# Altium schematic symbol library JLC_PCB.SchLib: 359 symbols (part 3 of 3)
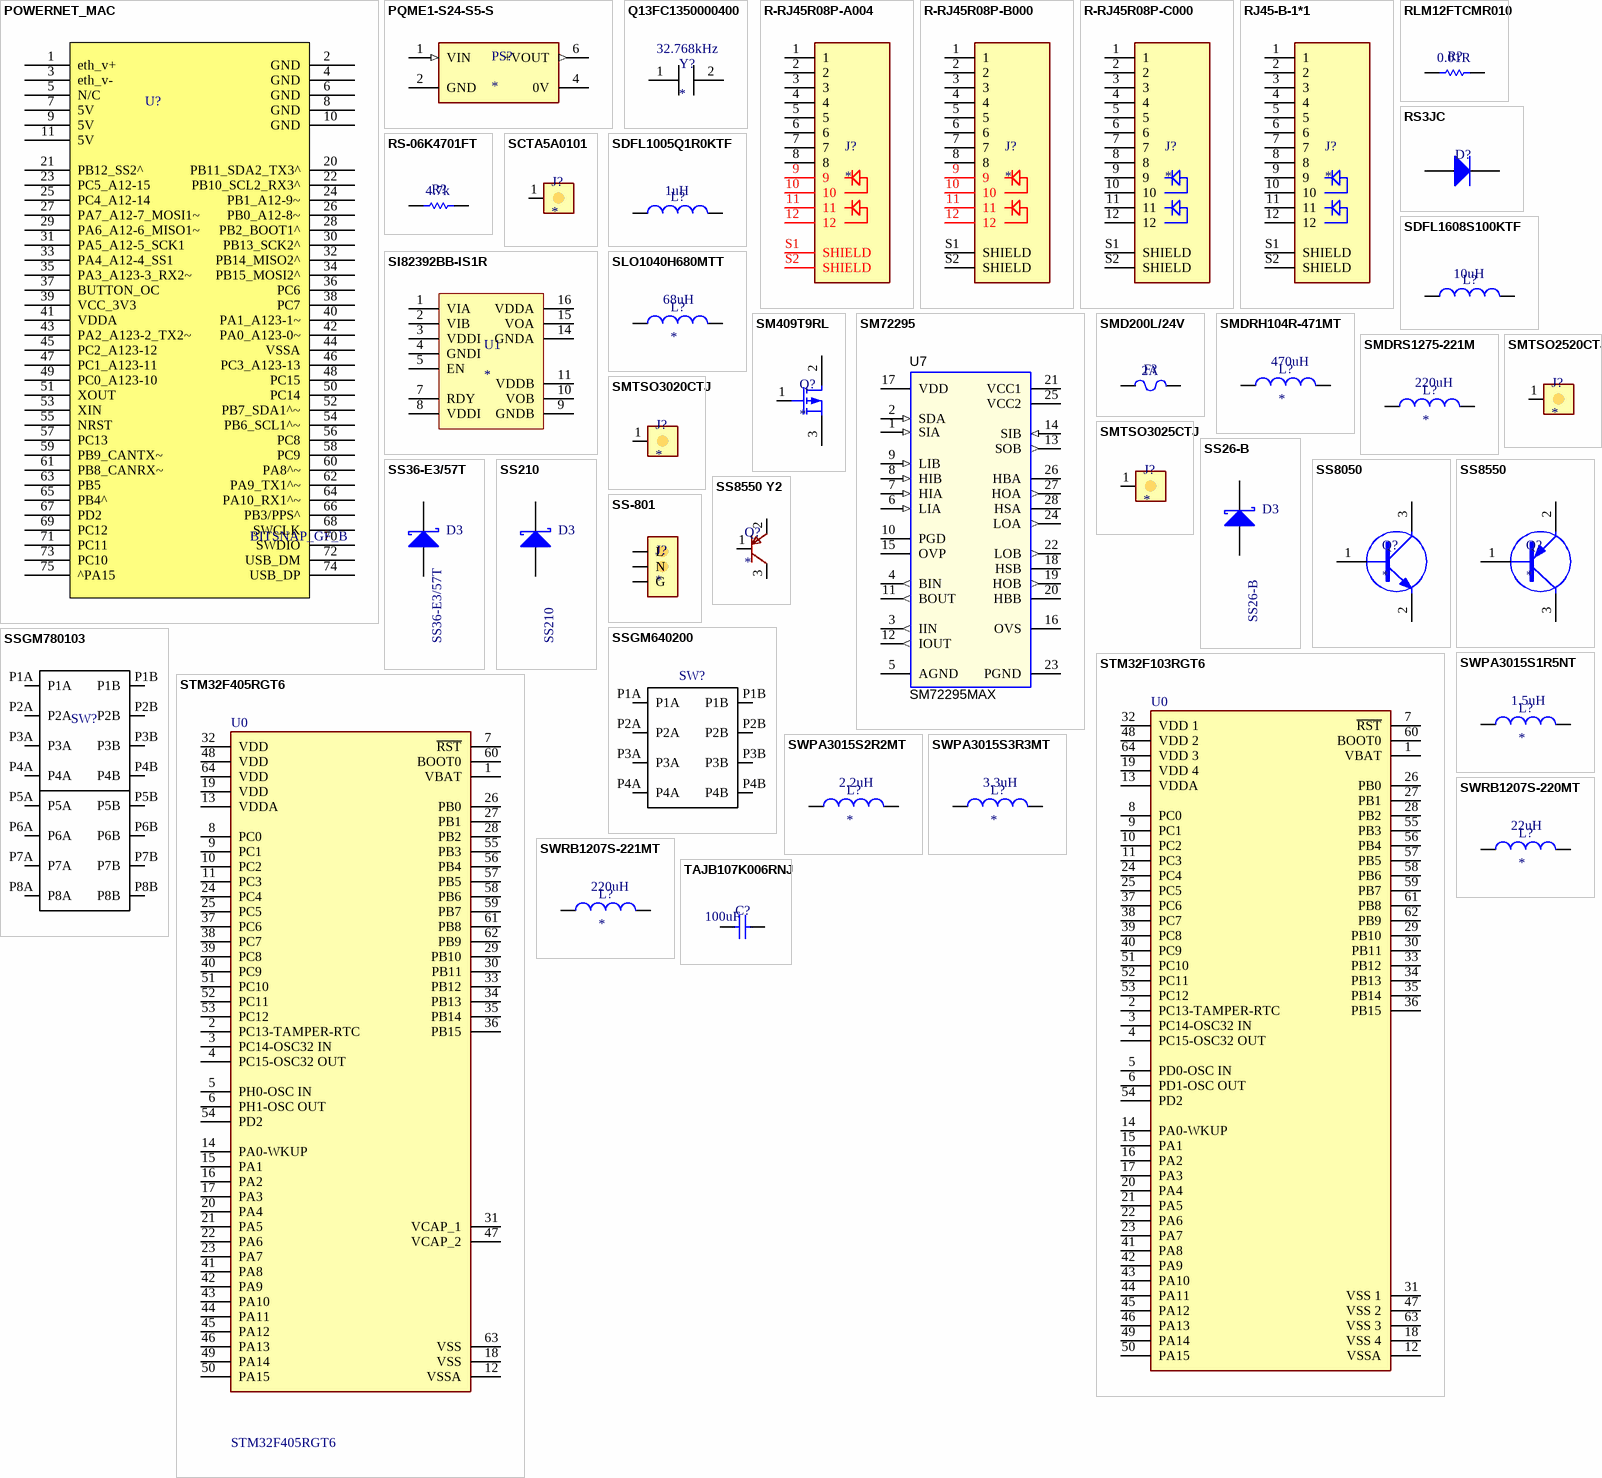
[diagram p11: symbols POWERNET_MAC to TAJB107K006RNJ]

## SWPA3015S1R5NT
designator L?  value 1.5uH
L - INDUCTOR - 1.5uH - 1.7A - 3mm; Isat: 1.7A; LCSC Part #: C56594; JLC Availability: Extended
footprint swpa301 (High Current Inductors)
pins: 1, 2

## SWPA3015S2R2MT
designator L?  value 2.2uH
L - INDUCTOR - 2.2uH - 2A - 3mm; Isat: 2A; LCSC Part #: C43389; JLC Availability: Extended
footprint swpa301 (High Current Inductors)
pins: 1, 2

## SWPA3015S3R3MT
designator L?  value 3.3uH
L - INDUCTOR - 3.3uH - 1.36A - 3mm; Isat: 1.36A; LCSC Part #: C48020; JLC Availability: Extended
footprint swpa301 (High Current Inductors)
pins: 1, 2

## SWRB1207S-220MT
designator L?  value 22uH
L - INDUCTOR - 22uH - 3.6A - 12.5mm; Isat: 3.6A; LCSC Part #: C169374; JLC Availability: Extended
footprint SRR1260 (High Current Inductors)
pins: 1, 2

## SWRB1207S-221MT
designator L?  value 220uH
L - INDUCTOR - 220uH - 1.6A - 12.5mm; Isat: 1.6A; LCSC Part #: C169380; JLC Availability: Extended
footprint SRR1260 (High Current Inductors)
pins: 1, 2

## TAJB107K006RNJ
designator C?  value 100uF  (hidden comment: *)
C - CAPACITOR - MLCC - 100uF - 6.3V - 0402; WVDC: 6.3; LCSC Part #: C16133; JLC Availability: Basic
footprint C_1210 (Chip Capacitor; Body 3.2 x 2.5 mm (LxW typ))
pins: 1, 2

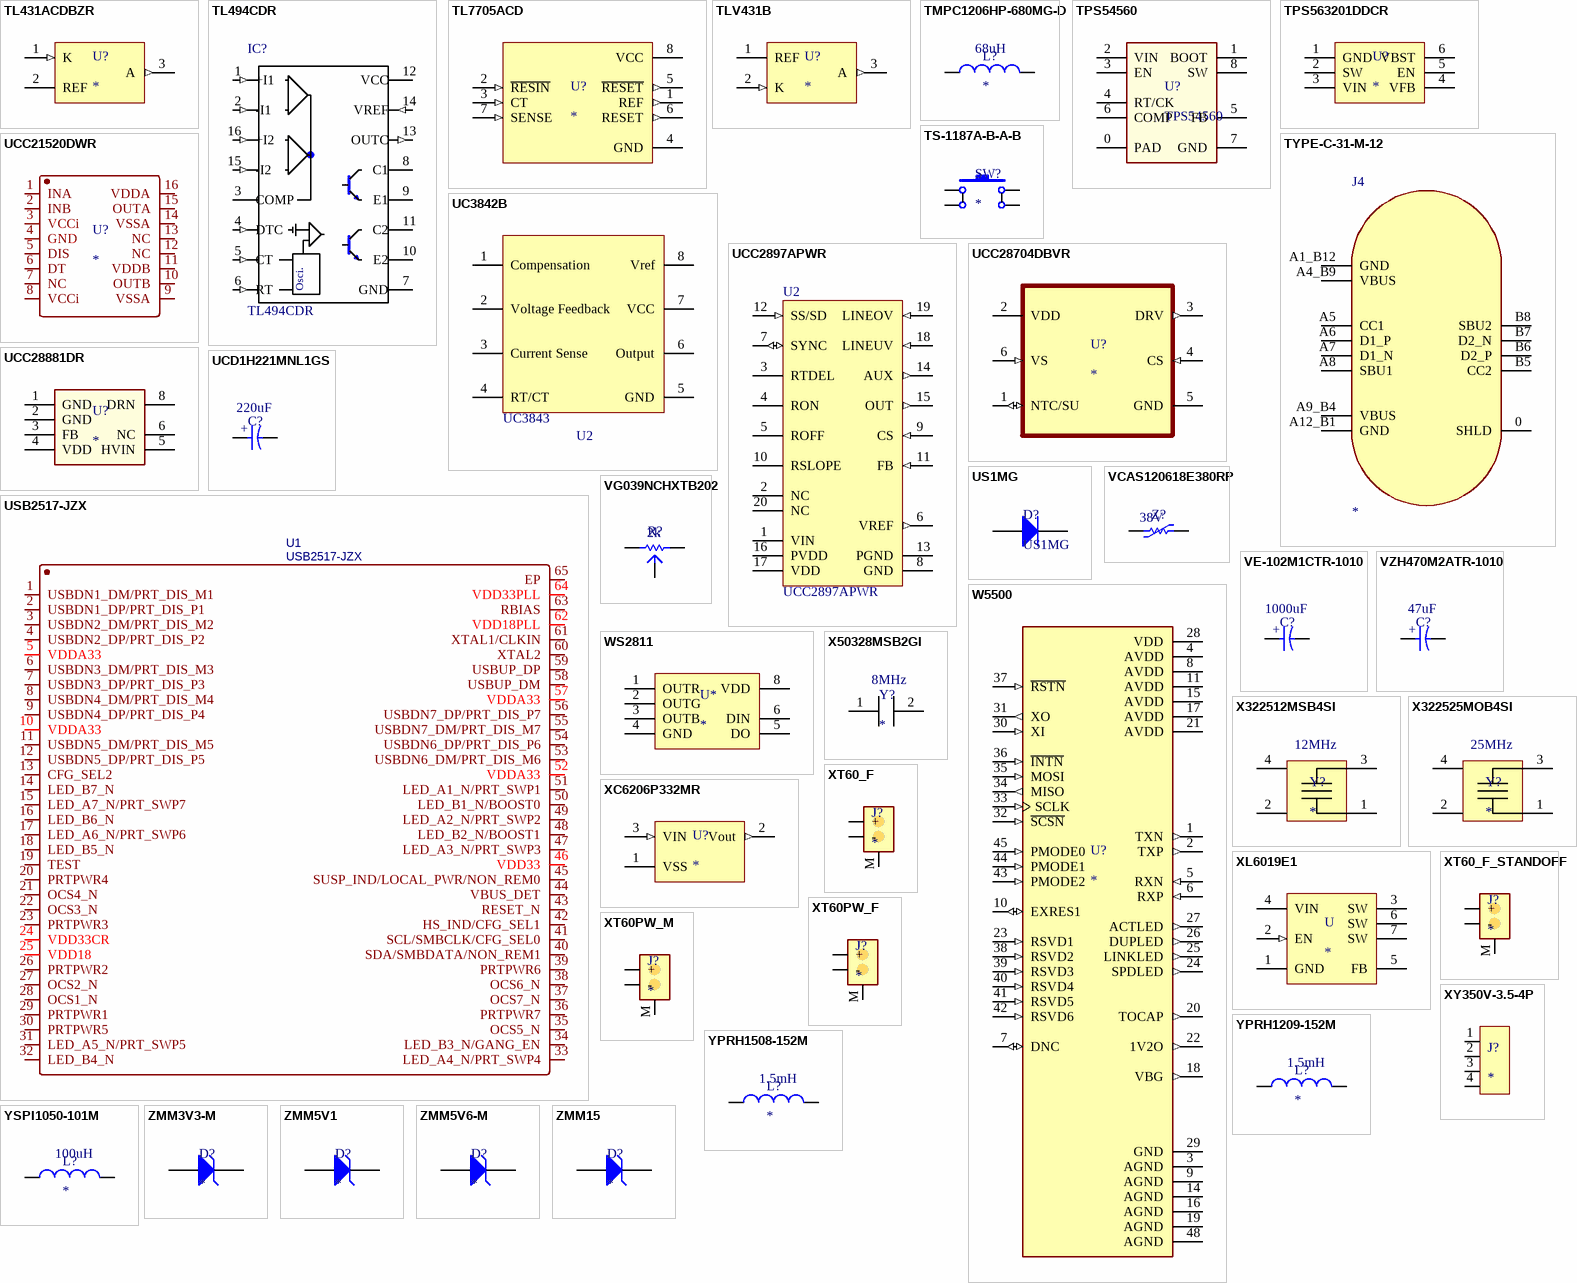
[diagram p9: symbols TL431ACDBZR to ZMM15]

## TL431ACDBZR
designator U?
U - IC - ADJUSTABLE SHUNT REGULATOR; VOut: ADJ; LCSC Part #: C350683; JLC Availability: Extended
footprint TO-236AB (SOT-23-3 Leads; Body 3.1 x 3 mm, inc. leads (LxW max))
pins: 1 K (in), 2 REF, 3 A (out)

## TL494CDR
designator IC?
U - IC - Buck, Push-Pull Regulator Positive Output Step-Down, Step-Up/Step-Down - DC-DC Controller IC 16-SOIC; SnapEDA_Link: https://www.snapeda.com/parts/TL494/Onsemi/view-part/?ref=snap; Availability: In Stock; MP: TL494CDR; Price: None; Purchase-URL: https://pricing.snapeda.com/search/part/TL494/?ref=eda; JLC Availability: Extended; Check_prices: https://www.snapeda.com/parts/TL494/Onsemi/view-part/?ref=eda; LCSC Part #: C19882; Value: *
footprint SOIC-16-P1.27-W3.5
pins: 1 +I1 (in), 2 -I1 (in), 3 COMP, 4 DTC (in), 5 CT (in), 6 RT (in), 7 GND (power), 8 C1, 9 E1, 10 E2, 11 C2, 12 VCC (power), 13 OUTC (out), 14 VREF (in), 15 -I2 (in), 16 +I2 (in)
text: Osci.

## TL7705ACD
designator U?
U - IC - 5-V single-supply voltage supervisor with programmable delay time 8-PDIP 0 to 70; MP: TL7705ACP; MF: Texas Instruments; Availability: Extended; SnapEDA_Link: https://www.snapeda.com/parts/TL7705ACP/Texas%20Instruments/view-part/130871/?ref=snap; LCSC Part #: C350569; Value: *; Purchase-URL: https://pricing.snapeda.com/search/part/TL7705ACP/?ref=eda; Package: SOIC-8; Price: None
footprint SOIC-8-P1.27-W3.5
pins: 1 REF (out), 2 ~{RESIN} (in), 3 CT (in), 4 GND (power), 5 ~{RESET} (out), 6 RESET (out), 7 SENSE (in), 8 VCC (power)

## TLV431B
designator U?
U - IC - ADJUSTABLE SHUNT REGULATOR; VOut: ADJ; LCSC Part #: C189220; JLC Availability: Extended
footprint TO-236AB (SOT-23-3 Leads; Body 3.1 x 3 mm, inc. leads (LxW max))
pins: 1 REF, 2 K (in), 3 A (out)

## TMPC1206HP-680MG-D
designator L?  value 68uH
L - INDUCTOR - 68uH - 5A - 12.5mm; Isat: 5A; LCSC Part #: C357266; JLC Availability: Extended
footprint TMPC1206HP (High Current Inductors)
pins: 1, 2

## TPS54560
designator U?
U - IC - BUCK CONVERTER, ADJUSTABLE, 65V; ComponentLink1Description: Manufacturer URL; ComponentLink1URL: http://www.st.com/web/en/home.html; ComponentLink2Description: Datasheet; ComponentLink2URL: http://www.st.com/st-web-ui/static/active/en/resource/technical/document/datasheet/CD00161566.pdf; ComponentLink3Description: Package Specification; ComponentLink3URL: http://www.st.com/st-web-ui/static/active/en/resource/technical/document/datasheet/DM00058181.pdf; JLC Availability: Extended; LCSC Part #: C31966
footprint SOIC-8-P1.27-W3.5-EP
pins: 0 PAD, 1 BOOT, 2 VIN, 3 EN, 4 RT/CK, 5 FB, 6 COMP, 7 GND, 8 SW

## TPS563201DDCR
designator U?
U - IC - ADJ Power Regulator; VOut: ADJ; LCSC Part #: C116592; JLC Availability: Extended
footprint SOT-23-6 (SOT-23-6 Leads; Body 3.1 x 3 mm, inc. leads (LxW max))
pins: 1 GND, 2 SW (power), 3 VIN (power), 4 VFB (power), 5 EN, 6 VBST

## TS-1187A-B-A-B
designator SW?
SW - SWITCH - SPST - NO - Top Actuated Surface Mount; JLC Availability: Basic; LCSC Part #: C318884
footprint TS-1187A-C-C-B (Tactile Switch SPST-NO Top Actuated Surface Mount)
pins: 1, 1B, 2, 2B

## TYPE-C-31-M-12
designator J4
J - JACK - USB - Type C - Recepticle - SMT - 90°; JLC Availability: Extended; LCSC Part #: C2156570
footprint TYPE-C-31-M-12 (USB-C (USB TYPE-C) USB 2.0 Receptacle Connector 24 (16+8 Dummy) Position Surface Mount, Right Angle)
pins: 0 SHLD, A1_B12 GND, A4_B9 VBUS (power), A5 CC1, A6 D1_P, A7 D1_N, A8 SBU1, A9_B4 VBUS (power), A12_B1 GND, B5 CC2, B6 D2_P, B7 D2_N, B8 SBU2

## UC3842B
designator U2, comment UC3843
IC - Current Mode REGULATOR; Availability: Extended; LCSC Part #: C347459
footprint SOIC-8-P1.27-W3.5
pins: 1 Compensation, 2 Voltage Feedback, 3 Current Sense, 4 RT/CT, 5 GND, 6 Output, 7 VCC, 8 Vref

## UCC2897APWR
designator U2
U - IC - Advanced Active Clamp PWM Controller with Current-Mode Control, -40 to +125 degC, 20-pin TSSOP (PW), Green (RoHS & no Sb/Br); Manufacturer: Texas Instruments; Rating: Catalog; Regulated Outputs(#): 1; Frequency(Max)(kHz): 1000; PackageVersion: revG, Feb-2011; Control Method: Current; SubFamily: PWM Controller; Code_JEDEC: MO-153; Eco-Plan: Green (RoHS & no Sb/Br); Mounting Technology: Surface Mount; PackageDescription: 20-Pin Plastic Thin Small Outline Package 6.5 x 4.4 mm Body ,0.65 mm Pitch; PartNumber: UCC2897APWR; PackageReference: PW0020A; DatasheetVersion: SLUS829D; LCSC Part #: C54444
footprint TSSOP-20-P0.65MM-W4.4MM (Shrink Small Outline; 20 Leads; Body Width 4.4 mm; Pitch 0.65 mm)
pins: 1 VIN (power) "This pin is connected to the input power rail directly. Inside the device, a high-voltage start-up device is utilized to provide the start-up current for the controller until a bootstrap type bias rail becomes available.", 2 NC "No connection.", 3 RTDEL "A resistor from this pin to GND programs the turn-on delay of the two gate drive outputs to accommodate the resonant transitions of the active clamp power converter.", 4 RON "A resistor connected from this pin to GND programs an internal current source that charges the internal timing capacitor.", 5 ROFF "A resistor connected from this pin to GND programs an internal current source that discharges the internal timing capacitor.", 6 VREF (out) "This is the 5-V reference voltage that can be utilized for an external load of up to 5 mA. Since this reference provides the supply rail for internal logic, it should be bypassed to AGND as close as possible to the device. (See Datasheet)", 7 SYNC (io) "The SYNC pin serves as a bidirectional synchronization input for the internal oscillator. The synchronization function is implemented such that the user programmable maximum duty cycle (set by RON and ROFF) remains accurate (See Datasheet)", 8 GND (power) "This pin serves as the fundamental analog ground for the PWM control circuitry. This pin should be connected to PGND directly at the device.", 9 CS (in) "This pin is used to sense the peak current utilized for current mode control and for current limiting functions. The peak signal which can be applied to this pin before pulse-by-pulse current limiting activates is (See Datasheet)", 10 RSLOPE "A resistor connected from this pin to GND programs an internal current source that sets the slope compensation ramp for the current mode control circuitry.", 11 FB (in) "This pin is used to bring the error signal from an external optocoupler or error amplifier into the PWM control circuitry. Often, there is a resistor tied from FB to VREF, and an optocoupler is used to pull the control pin (See Datasheet)", 12 SS/SD (in) "A capacitor from SS/SD to ground is charged by an internal current source of IRON to program the soft-start interval for the controller. During a fault condition this capacitor is discharged by a current source equal to IRON.", 13 PGND (power) "The PGND should serve as the current return for the high-current output drivers OUT and AUX. Ideally, the current path from the outputs to the switching devices, and back would be as short as possible, and enclose a minimal (See Datasheet)", 14 AUX (out) "This output drives the auxiliary clamp MOSFET which is turned on when the main PWM switching device is turned off. The AUX pin can directly drive the auxiliary switch with 2-A source turn-on current and 2-A sink turn-off (See Datasheet)", 15 OUT (out) "This output pin drives the main PWM switching element MOSFET in an active clamp controller. It can directly drive an N-channel device with 2-A source turn-on current and 2-A sink turn-off current. Recommend connecting a 10-k (See Datasheet)", 16 PVDD (power) "This is the supply pin for the power devices. It is separated internally from the VDD pin.", 17 VDD (power) "This is the power supply for the device. There should be a 1.0-uF capacitor directly from VDD to PGND. The capacitor value should be minimum 10 times bigger than that on VREF. PGND and GND should be connected externally and (See Datasheet)", 18 LINEUV (in) "This pin provides a means to accurately enable/disable the power converter stage by monitoring the bulk input voltage or another parameter. When the circuit initially starts (or restarts from a disabled condition), a rising (See Datasheet)", 19 LINEOV (in) "This is an input pin of voltage comparator with programmable hysteresis and 1.27-V threshold, providing LINE overvoltage or other functions.", 20 NC "No connection."

## UCC21520DWR
designator U?
U - IC - GATE DRIVER, Half Bridge, Isolated; LCSC Part #: C601651; JLC Availability: Extended
footprint SOIC-16-P1.27-W7.5
pins: 1 INA, 2 INB, 3 VCCi, 4 GND, 5 DIS, 6 DT, 7 NC, 8 VCCi, 9 VSSA, 10 OUTB, 11 VDDB, 12 NC, 13 NC, 14 VSSA, 15 OUTA, 16 VDDA

## UCC28704DBVR
designator U?
U - IC - PSR FLYBACK CTRL; MP: UCC28704DBVR-1; LCSC Part #: C2864380; Package: None; Price: None; Value: *; Availability: Unavailable
footprint SOT-23-6 (SOT-23-6 Leads; Body 3.1 x 3 mm, inc. leads (LxW max))
pins: 1 NTC/SU (io), 2 VDD (power), 3 DRV (out), 4 CS (in), 5 GND (power), 6 VS (in)

## UCC28881DR
designator U?
U - IC - BUCK CONVERTER, ADJUSTABLE, 700V; ComponentLink1Description: Manufacturer URL; ComponentLink1URL: http://www.st.com/web/en/home.html; ComponentLink2Description: Datasheet; ComponentLink2URL: http://www.st.com/st-web-ui/static/active/en/resource/technical/document/datasheet/CD00161566.pdf; ComponentLink3Description: Package Specification; ComponentLink3URL: http://www.st.com/st-web-ui/static/active/en/resource/technical/document/datasheet/DM00058181.pdf; JLC Availability: Extended; LCSC Part #: C544970
footprint SOIC-7-P1.27-W3.5
pins: 1 GND, 2 GND, 3 FB, 4 VDD, 5 HVIN, 6 NC, 8 DRN

## UCD1H221MNL1GS
designator C?  value 220uF  (hidden comment: *)
C - CAPACITOR - ELECTROLYTIC - 220uF - 50V; WVDC: 50; ESR: 40mOhm; JLC Availability: Extended; LCSC Part #: C116211
footprint C_CAN_1010 (SMD-ECAP-10x10)
pins: 1, 2
text: +

## US1MG
designator D?
D - DIODE - FAST TRR - 1KV - 1A; LCSC Part #: C412437; JLC Availability: Basic
footprint DO-214AC (SMA Diode)
pins: 1 K, 2 A

## USB2517-JZX
designator U1
U - IC - USB 2.0 Hub, 7 Port, 6TT; Manufacturer: MICROCHIP(美国微芯); Contributor: LCSC; Supplier: LCSC; LCSC Part #: C1521556; Manufacturer Part: USB2517-JZX; JLCPCB Part Class: Extended Part; spicePre: U; spiceSymbolName: USB2517-JZX
footprint QFN-64_L9.0-W9.0-P0.50-BL-EP4.8
pins: 1 USBDN1_DM/PRT_DIS_M1, 2 USBDN1_DP/PRT_DIS_P1, 3 USBDN2_DM/PRT_DIS_M2, 4 USBDN2_DP/PRT_DIS_P2, 5 VDDA33, 6 USBDN3_DM/PRT_DIS_M3, 7 USBDN3_DP/PRT_DIS_P3, 8 USBDN4_DM/PRT_DIS_M4, 9 USBDN4_DP/PRT_DIS_P4, 10 VDDA33, 11 USBDN5_DM/PRT_DIS_M5, 12 USBDN5_DP/PRT_DIS_P5, 13 CFG_SEL2, 14 LED_B7_N, 15 LED_A7_N/PRT_SWP7, 16 LED_B6_N, 17 LED_A6_N/PRT_SWP6, 18 LED_B5_N, 19 TEST, 20 PRTPWR4, 21 OCS4_N, 22 OCS3_N, 23 PRTPWR3, 24 VDD33CR, 25 VDD18, 26 PRTPWR2, 27 OCS2_N, 28 OCS1_N, 29 PRTPWR1, 30 PRTPWR5, 31 LED_A5_N/PRT_SWP5, 32 LED_B4_N, 33 LED_A4_N/PRT_SWP4, 34 LED_B3_N/GANG_EN, 35 OCS5_N, 36 PRTPWR7, 37 OCS7_N, 38 OCS6_N, 39 PRTPWR6, 40 SDA/SMBDATA/NON_REM1, 41 SCL/SMBCLK/CFG_SEL0, 42 HS_IND/CFG_SEL1, 43 RESET_N, 44 VBUS_DET, 45 SUSP_IND/LOCAL_PWR/NON_REM0, 46 VDD33, 47 LED_A3_N/PRT_SWP3, 48 LED_B2_N/BOOST1, 49 LED_A2_N/PRT_SWP2, 50 LED_B1_N/BOOST0, 51 LED_A1_N/PRT_SWP1, 52 VDDA33, 53 USBDN6_DM/PRT_DIS_M6, 54 USBDN6_DP/PRT_DIS_P6, 55 USBDN7_DM/PRT_DIS_M7, 56 USBDN7_DP/PRT_DIS_P7, 57 VDDA33, 58 USBUP_DM, 59 USBUP_DP, 60 XTAL2, 61 XTAL1/CLKIN, 62 VDD18PLL, 63 RBIAS, 64 VDD33PLL, 65 EP

## VCAS120618E380RP
designator Z?  WVDC: 38V  (hidden comment: *)
Z - VARISTOR - 38V - 0.5J - 200A - 1206; JLC Availability: Extended; LCSC Part #: C382117; Value: 0.5J
footprint C_1206 (Chip Capacitor; Body 3.2 x 1.6 mm (LxW typ))
pins: 1, 2

## VE-102M1CTR-1010
designator C?  value 1000uF  (hidden comment: *)
C - CAPACITOR - ELECTROLYTIC - 1000uF - 16V; WVDC: 16; ESR: 40mOhm; JLC Availability: Extended; LCSC Part #: C249474
footprint C_CAN_1010 (SMD-ECAP-10x10)
pins: 1, 2
text: +

## VG039NCHXTB202
designator R?  value 2k  (hidden comment: *)
R - POTENTIOMETER - SMD - 2k - 1% - 0805; LCSC Part #: C128549; JLC Availability: Extended
footprint R_3MM_POT (Body 3.2 x 1.6 mm (LxW typ))
pins: 1, 2, 3

## VZH470M2ATR-1010
designator C?  value 47uF  (hidden comment: *)
C - CAPACITOR - ELECTROLYTIC - 47uF - 100V; WVDC: 100; ESR: 40mOhm; JLC Availability: Extended; LCSC Part #: C164068
footprint C_CAN_1010 (SMD-ECAP-10x10)
pins: 1, 2
text: +

## W5500
designator U?
U - IC - Ethernet Controller 10/100 Base-T/TX PHY SPI Interface 48-LQFP (7x7); MF: WIZnet; MP: W5500; Value: *; Package: None; LCSC Part #: C32843; Price: None; Availability: Extended; SnapEDA_Link: https://www.snapeda.com/parts/W5500/WIZnet/view-part/?ref=snap; Purchase-URL: https://pricing.snapeda.com/search/part/W5500/?ref=eda
footprint QFP-48-P0.5MM (QFP; 48 Leads; Body 7 x 7 mm; Pitch 0.5 mm)
pins: 1 TXN (out), 2 TXP (out), 3 AGND (power), 4 AVDD (power), 5 RXN (in), 6 RXP (in), 7 DNC (io), 8 AVDD (power), 9 AGND (power), 10 EXRES1 (io), 11 AVDD (power), 14 AGND (power), 15 AVDD (power), 16 AGND (power), 17 AVDD (power), 18 VBG (out), 19 AGND (power), 20 TOCAP (out), 21 AVDD (power), 22 1V2O (out), 23 RSVD1 (in), 24 SPDLED (out), 25 LINKLED (out), 26 DUPLED (out), 27 ACTLED (out), 28 VDD (power), 29 GND, 30 XI (in), 31 XO (out), 32 ~{SCSN} (in), 33 SCLK (in), 34 MISO (out), 35 MOSI (in), 36 ~{INTN} (in), 37 ~{RSTN} (in), 38 RSVD2 (in), 39 RSVD3 (in), 40 RSVD4 (in), 41 RSVD5 (in), 42 RSVD6 (in), 43 PMODE2 (in), 44 PMODE1 (in), 45 PMODE0 (in), 48 AGND (power)

## WS2811
designator U*
U - IC - Addressable PWM Driver; JLC Availability: Extended; LCSC Part Number: C114581
footprint SOIC-8-P1.27-W3.5
pins: 1 OUTR, 2 OUTG, 3 OUTB, 4 GND, 5 DO, 6 DIN, 8 VDD

## X50328MSB2GI
designator Y?  value 8MHz
Y - RESONATOR - 8MHZ ±10PPM - SMD-5032; LCSC Part #: C115962; Availability: Basic
footprint YSX530GA
pins: 1, 2

## X322512MSB4SI
designator Y?  value 12MHz
Y - RESONATOR - 12MHZ ±10PPM; LCSC Part #: C9002; JLC Availability: Basic
footprint X322512MSB4SI (Footprint not found)
pins: 1, 2 GND, 3, 4 GND

## X322525MOB4SI
designator Y?  value 25MHz
Y - RESONATOR - 25MHZ ±10PPM; LCSC Part #: C9006; JLC Availability: Basic
footprint X322512MSB4SI (Footprint not found)
pins: 1, 2 GND, 3, 4 GND

## XC6206P332MR
designator U?
U - IC - LDO 3.3V 200mA; VOut: 3.3; LCSC Part #: C5446; JLC Availability: Basic
footprint TO-236AB (SOT-23-3 Leads; Body 3.1 x 3 mm, inc. leads (LxW max))
pins: 1 VSS (power), 2 Vout (out), 3 VIN (in)

## XL6019E1
designator U
U - IC - BOOST CONVERTER, ADJUSTABLE, 40V, 5A; MF: XLSEMI; Package: TO-263-5; Availability: Extended; Value: *; LCSC Part #: C73018
footprint TO-263-5
pins: 1 GND, 2 EN (in), 3 SW (power), 4 VIN, 5 FB, 6 SW (power), 7 SW (power)

## XT60_F
designator J?
J - JACK - POWER - XT60 - STRIGHT - FEMALE; LCSC Part #: C98734; JLC Availability: Extended
footprint XT60_F_FLUSH (XT 60 Female)
pins: M, MINUS -, PLUS +

## XT60_F_STANDOFF
designator J?
J - JACK - POWER - XT60 - STRIGHT - FEMALE; LCSC Part #: C98734; JLC Availability: Extended
footprint XT60_F (XT 60 Female)
pins: M, MINUS -, PLUS +

## XT60PW_F
designator J?
J - JACK - POWER - XT60 - RIGHT - FEMALE; LCSC Part #: C428722; JLC Availability: Extended
footprint XT60PW_F (XT 60 Female Right Angle)
pins: M, MINUS -, PLUS +

## XT60PW_M
designator J?
J - JACK - POWER - XT60 - RIGHT - MALE; LCSC Part #: C98732; JLC Availability: Extended
footprint XT60PW_M (XT 60 Male Right Angle)
pins: M, MINUS -, PLUS +

## XY350V-3.5-4P
designator J?
J - JACK - TERMINAL - 4P - RIGHT - MALE; LCSC Part #: C557656; JLC Availability: Extended
footprint XY350V-3.5-4P (4 Terminal 3.5mm Header)
pins: 1, 2, 3, 4

## YPRH1209-152M
designator L?  value 1.5mH
L - INDUCTOR - 1.5mH - 0.56A - 12.5mm; Isat: 560mA; LCSC Part #: C718313; JLC Availability: Extended
footprint SRR1260_SMALL_PAD (High Current Inductors)
pins: 1, 2

## YPRH1508-152M
designator L?  value 1.5mH
L - INDUCTOR - 1.5mH - 0.8A - 15mm; Isat: 830mA; LCSC Part #: C970553; JLC Availability: Extended
footprint SRR1580 (High Current Inductors)
pins: 1, 2

## YSPI1050-101M
designator L?  value 100uH
L - INDUCTOR - 100uH - 2A - 12.5mm; Isat: 2A; LCSC Part #: C497903; JLC Availability: Extended
footprint SRR1260 (High Current Inductors)
pins: 1, 2

## ZMM3V3-M
designator D?
D - DIODE - ZENER - 3.3V - 500mW; LCSC Part #: C8056; JLC Availability: Basic
footprint DO-213AA (2 Leads)
pins: 1 K, 2 A

## ZMM5V1
designator D?
D - DIODE - ZENER - 5.1V - 500mW; LCSC Part #: C8061; JLC Availability: Extended
footprint DO-213AA (2 Leads)
pins: 1 K, 2 A

## ZMM5V6-M
designator D?
D - DIODE - ZENER - 5.6V - 500mW; LCSC Part #: C8062; JLC Availability: BASIC
footprint DO-213AA (2 Leads)
pins: 1 K, 2 A

## ZMM15
designator D?
D - DIODE - ZENER - 15V - 500mW; LCSC Part #: C181074; JLC Availability: Extended
footprint DO-213AA (2 Leads)
pins: 1 K, 2 A